# Altium footprint library PcbLib1.PcbLib: 6 footprints
Each footprint in its own frame and in the unit in brackets; x right, y up, seen from the top. Pads: shape width x height; smd on the part's side, far side on the other; paste and mask are expansions set on the pad; w line width, h text height; cw(c..) or ccw(c..) is an arc to the next point about the centre after c.
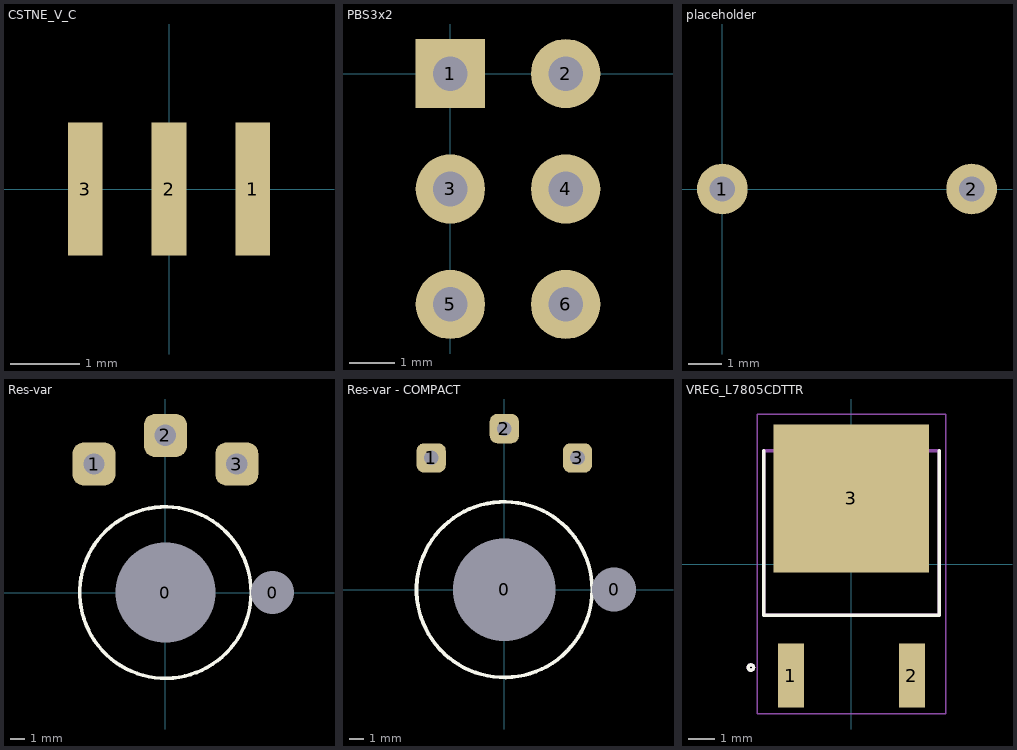
[diagram p0: the footprints below, top view; thin cyan lines are the x and y axes]

## CSTNE_V_C [mm]
pads (3):
  rect 0.5x1.9 smd: 1(1.2,0) 2(0,0) 3(-1.2,0)

## PBS3x2 [mil]
pads (6):
  rect 60x60 hole 30: 1(0,0)
  round 60 hole 30: 2(100,0) 3(0,-100) 4(100,-100) 5(0,-200) 6(100,-200)

## placeholder [mil]
pads (2):
  round 60 hole 30: 1(0,0) 2(295.28,0)

## Res-var [mm]
pads (5):
  round 1.524 hole 7: 0(0,0)
  round 1.524 hole 3: 0(7.5,0)
  rrect50% 3x3 hole 1.5: 1(-5,9) 2(0,11) 3(5,9)
Top Overlay:
  circle w0.254: c0,0 r6
Bottom Overlay:
  circle w0.254: c0,0 r8.5
Mechanical 3:
  circle w0.4: c0,0 r0.5
  circle w0.4: c7.5,0 r0.5
  lines w0.4: -2.75,0 -0.5,0 ; 0,-2.75 0,-0.5 0,-1.25 ; 0,1.25 0,0.5 0,2.75 ; 0.5,0 2.75,0 ; 6.25,0 7,0 ; 7.5,-1.25 7.5,-0.5 ; 7.5,0.5 7.5,1.25 ; 8,0 8.75,0
3D body "shapr3d_export_2026-07-21_18h44m.step": height 14.9, standoff -8.7, extent -7.835,-7.852 7.865,13.289

## Res-var - COMPACT [mm]
pads (5):
  round 1.524 hole 7: 0(0,0)
  round 1.524 hole 3: 0(7.5,0)
  rrect50% 2x2 hole 1: 1(-5,9) 2(0,11) 3(5,9)
Top Overlay:
  circle w0.254: c0,0 r6
Bottom Overlay:
  circle w0.254: c0,0 r8.5
Mechanical 3:
  circle w0.4: c0,0 r0.5
  circle w0.4: c7.5,0 r0.5
  lines w0.4: -2.75,0 -0.5,0 ; 0,-2.75 0,-0.5 0,-1.25 ; 0,1.25 0,0.5 0,2.75 ; 0.5,0 2.75,0 ; 6.25,0 7,0 ; 7.5,-1.25 7.5,-0.5 ; 7.5,0.5 7.5,1.25 ; 8,0 8.75,0
3D body "shapr3d_export_2026-07-21_18h44m.step": height 14.9, standoff -8.7, extent -7.835,-7.852 7.865,13.289

## VREG_L7805CDTTR [mm]
pads (3):
  rect 0.98x2.4 smd: 1(-2.28,-4.2) 2(2.28,-4.2)
  rect 5.86x5.57 smd paste-4: 3(0,2.47)
Top Overlay:
  circle w0.127: c-3.786,-3.9 r0.1
  lines w0.127: -3.3,4.27 -3.3,-1.93 3.3,-1.93 3.3,4.27
Mechanical 13:
  circle w0.127: c-3.786,-3.9 r0.1
  lines w0.127: -3.3,-1.93 3.3,-1.93 3.3,4.27 -3.3,4.27 -3.3,-1.93
Mechanical 15:
  lines w0.05: -3.55,-5.65 -3.55,5.65 3.55,5.65 3.55,-5.65 -3.55,-5.65
3D body "step_temp.STEP": height 2.17, standoff -0.23, extent -3.25,-4.743 3.25,4.982